# Altium footprint library Main_Board.PcbLib: 78 footprints (part 1 of 5)
Each footprint in its own frame and in the unit in brackets; x right, y up, seen from the top. Pads: shape width x height; smd on the part's side, far side on the other; paste and mask are expansions set on the pad; w line width, h text height; cw(c..) or ccw(c..) is an arc to the next point about the centre after c.
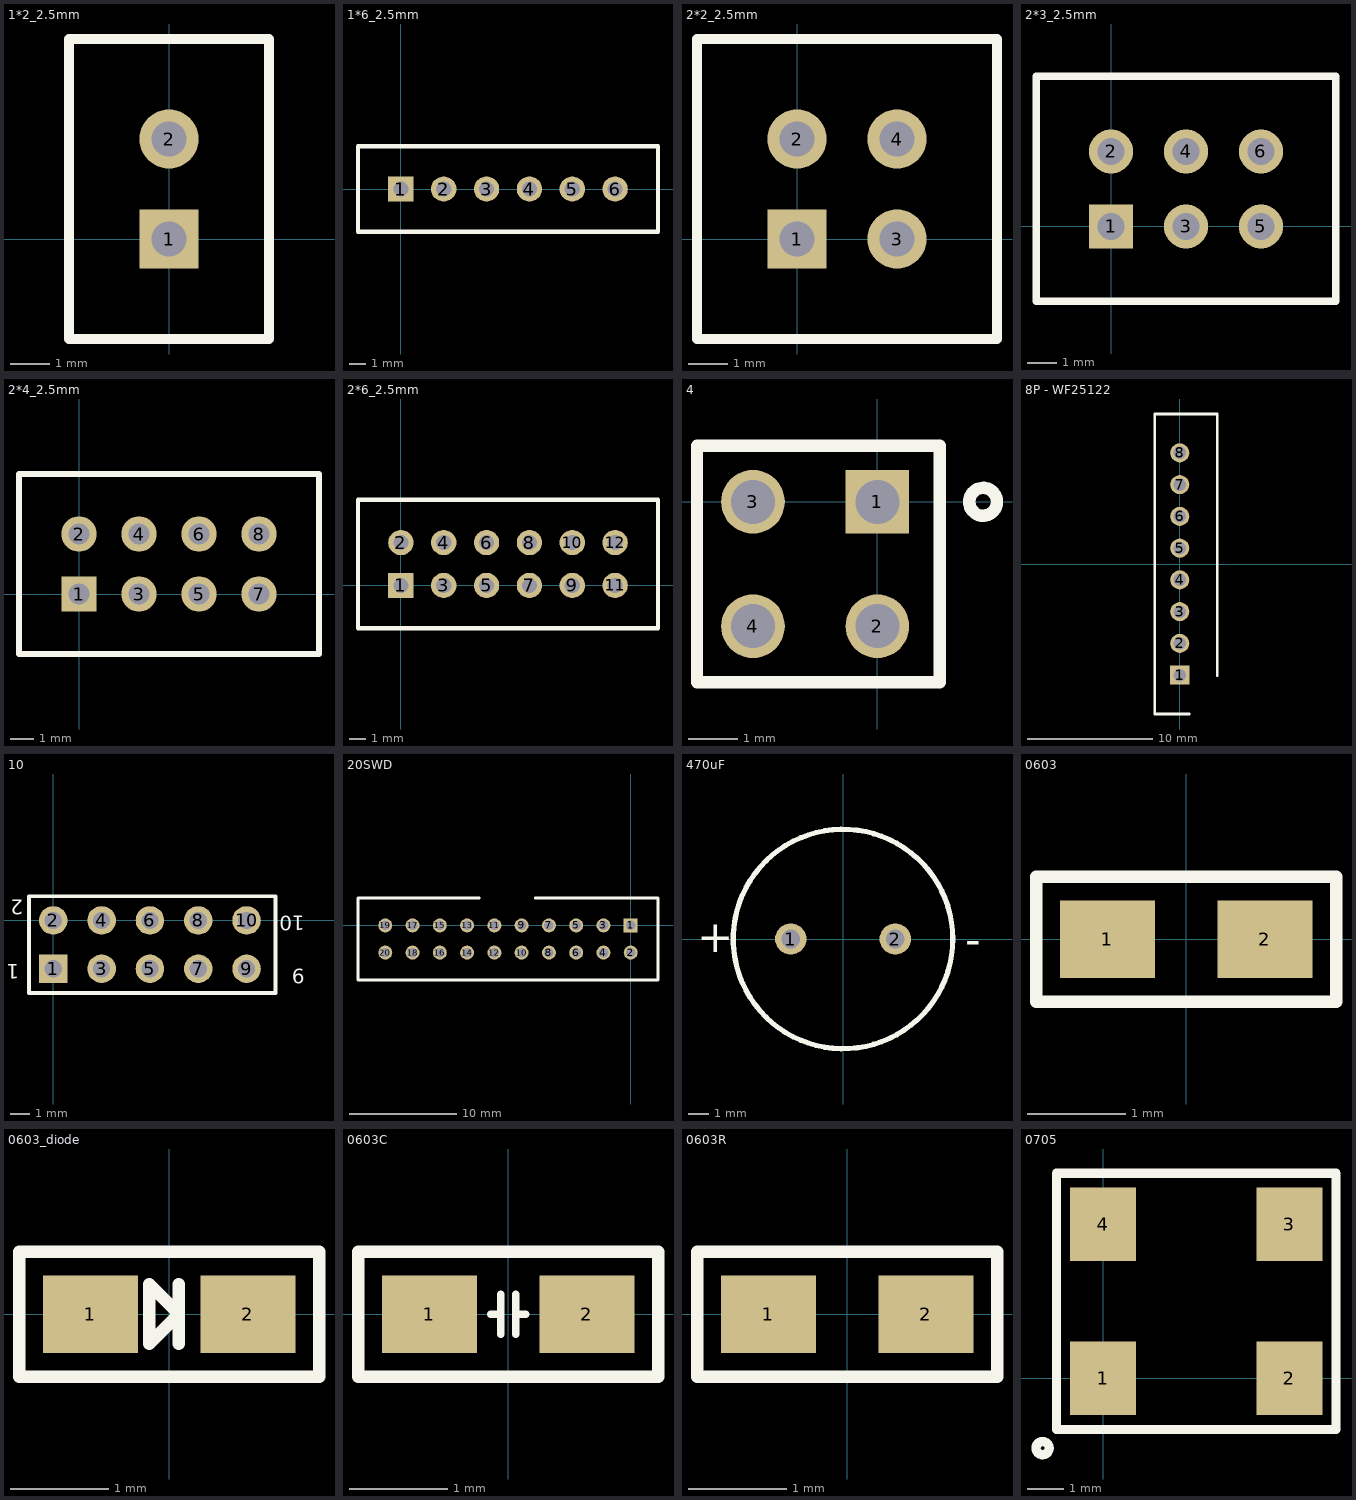
[diagram p0: the footprints below, top view; thin cyan lines are the x and y axes]

## 1*2_2.5mm [mm]
pads (2):
  rect 1.5x1.5 hole 0.9: 1(0,0)
  round 1.5 hole 0.9: 2(0,2.54)
Top Overlay:
  lines w0.254: -2.54,-2.54 2.54,-2.54 2.54,5.08 -2.54,5.08 -2.54,-2.54

## 1*6_2.5mm [mm] "1*6_2.5mm"
pads (6):
  rect 1.5x1.5 hole 0.9: 1(0,0)
  round 1.5 hole 0.9: 2(2.54,0) 3(5.08,0) 4(7.62,0) 5(10.16,0) 6(12.7,0)
Top Overlay:
  lines w0.254: -2.54,-2.54 15.24,-2.54 15.24,2.54 -2.54,2.54 -2.54,-2.54

## 2*2_2.5mm [mm]
pads (4):
  rect 1.5x1.5 hole 0.9: 1(0,0)
  round 1.5 hole 0.9: 2(0,2.54) 3(2.54,0) 4(2.54,2.54)
Top Overlay:
  lines w0.254: -2.54,-2.54 5.08,-2.54 5.08,5.08 -2.54,5.08 -2.54,-2.54

## 2*3_2.5mm [mm]
pads (6):
  rect 1.5x1.5 hole 0.9: 1(0,0)
  round 1.5 hole 0.9: 2(0,2.54) 3(2.54,0) 4(2.54,2.54) 5(5.08,0) 6(5.08,2.54)
Top Overlay:
  lines w0.254: -2.54,-2.54 -2.54,5.08 7.62,5.08 7.62,-2.54 -2.54,-2.54

## 2*4_2.5mm [mm]
pads (8):
  rect 1.5x1.5 hole 0.9: 1(0,0)
  round 1.5 hole 0.9: 2(0,2.54) 3(2.54,0) 4(2.54,2.54) 5(5.08,0) 6(5.08,2.54) 7(7.62,0) 8(7.62,2.54)
Top Overlay:
  lines w0.254: -2.54,-2.54 -2.54,5.08 10.16,5.08 10.16,-2.54 -2.54,-2.54

## 2*6_2.5mm [mm] "16V 12V 5V 3.3V"
pads (12):
  rect 1.5x1.5 hole 0.9: 1(0,0)
  round 1.5 hole 0.9: 2(0,2.54) 3(2.54,0) 4(2.54,2.54) 5(5.08,0) 6(5.08,2.54) 7(7.62,0) 8(7.62,2.54) 9(10.16,0) 10(10.16,2.54) 11(12.7,0) 12(12.7,2.54)
Top Overlay:
  lines w0.254: -2.54,-2.54 -2.54,5.08 15.24,5.08 15.24,-2.54 -2.54,-2.54

## 4 [mm]
pads (4):
  rect 1.3x1.3 hole 0.9: 1(0,0)
  round 1.3 hole 0.9: 2(0,-2.54) 3(-2.54,0) 4(-2.54,-2.54)
Top Overlay:
  circle w0.254: c2.159,0 r0.284
  lines w0.254: -3.683,-3.683 -3.683,1.143 1.27,1.143 1.27,-3.683 -3.683,-3.683

## 8P - WF25122 [mil] "Used for Motor connecter in ZJUNlict"
pads (8):
  rect 60x60 hole 39.37: 1(0,-350)
  round 60 hole 39.37: 2(0,-250) 3(0,-150) 4(0,-50) 5(0,50) 6(0,150) 7(0,250) 8(0,350)
Top Overlay:
  lines w8: 29.37,-472.44 -78.74,-472.44 -78.74,472.44 118.11,472.44 118.11,-351.26

## 10 [mm]
pads (10):
  rect 1.5x1.5 hole 0.9: 1(0,-2.54)
  round 1.5 hole 0.9: 2(0,0) 3(2.54,-2.54) 4(2.54,0) 5(5.08,-2.54) 6(5.08,0) 7(7.62,-2.54) 8(7.62,0) 9(10.16,-2.54) 10(10.16,0)
Top Overlay:
  lines w0.2: -1.27,-3.81 11.684,-3.81 11.684,1.27 -1.27,1.27 -1.27,-3.81
  text "10" at 13.208,0.254 h0.76
  text "9" at 13.208,-2.54 h0.76
  text "1" at -1.803,-2.311 h0.76
  text "2" at -1.575,1.092 h0.76

## 20SWD [mm]
pads (20):
  rect 1.3x1.3 hole 0.9: 1(0,0)
  round 1.3 hole 0.9: 2(0,-2.54) 3(-2.54,0) 4(-2.54,-2.54) 5(-5.08,0) 6(-5.08,-2.54) 7(-7.62,0) 8(-7.62,-2.54) 9(-10.16,0) 10(-10.16,-2.54) 11(-12.7,0) 12(-12.7,-2.54) 13(-15.24,0) 14(-15.24,-2.54) 15(-17.78,0) 16(-17.78,-2.54) 17(-20.32,0) 18(-20.32,-2.54) 19(-22.86,0) 20(-22.86,-2.54)
Top Overlay:
  lines w0.254: -14.097,2.54 -25.4,2.54 -25.4,-5.08 2.54,-5.08 ; -8.89,2.54 2.54,2.54 2.54,-5.08 ; -7.62,-5.08 2.54,-5.08

## 470uF [mm] "Capacitor (Radial); 2 Leads"
pads (2):
  round 1.5 hole 0.9: 1(-2.5,0) 2(2.5,0)
Top Overlay:
  circle w0.25: c0,0 r5.25
  text "+" at -6.985,-0.635 h1.52
  text "-" at 5.842,-0.762 h1.52

## 0603 [mil]
pads (2):
  rect 38x31 smd: 1(-31.5,0) 2(31.5,0)
Top Overlay:
  lines w5: -60,-25 -60,25 60,25 60,-25 -60,-25

## 0603_diode [mil]
pads (2):
  rect 38x31 smd: 1(-31.5,0) 2(31.5,0)
Top Overlay:
  lines w5: 3.94,-11.81 3.94,11.81 ; -60,-25 -60,25 60,25 60,-25 -60,-25 ; -7.87,-11.81 3.94,0 -7.87,11.81 -7.87,-11.81

## 0603C [mil]
pads (2):
  rect 38x31 smd: 1(-31.5,0) 2(31.5,0)
Top Overlay:
  lines w3: -7,0 -4,0 ; -3,-8 -3,8 ; 3,-8 3,8 ; 3,0 7,0
  lines w5: -60,-25 -60,25 60,25 60,-25 -60,-25

## 0603R [mil]
pads (2):
  rect 38x31 smd: 1(-31.5,0) 2(31.5,0)
Top Overlay:
  lines w5: -60,-25 60,-25 60,25 -60,25 -60,-25

## 0705 [mm] "8M Cristal"
pads (4):
  rect 1.8x2 smd: 1(0,0) 2(5.08,0) 3(5.08,4.2) 4(0,4.2)
Top Overlay:
  circle w0.254: c-1.651,-1.905 r0.18
  lines w0.254: -1.27,-1.397 6.35,-1.397 6.35,5.588 -1.27,5.588 -1.27,-1.397